# Altium footprint library Jameco_Connectors.PcbLib: 1 footprints
Each footprint in its own frame and in the unit in brackets; x right, y up, seen from the top. Pads: shape width x height; smd on the part's side, far side on the other; paste and mask are expansions set on the pad; w line width, h text height; cw(c..) or ccw(c..) is an arc to the next point about the centre after c.
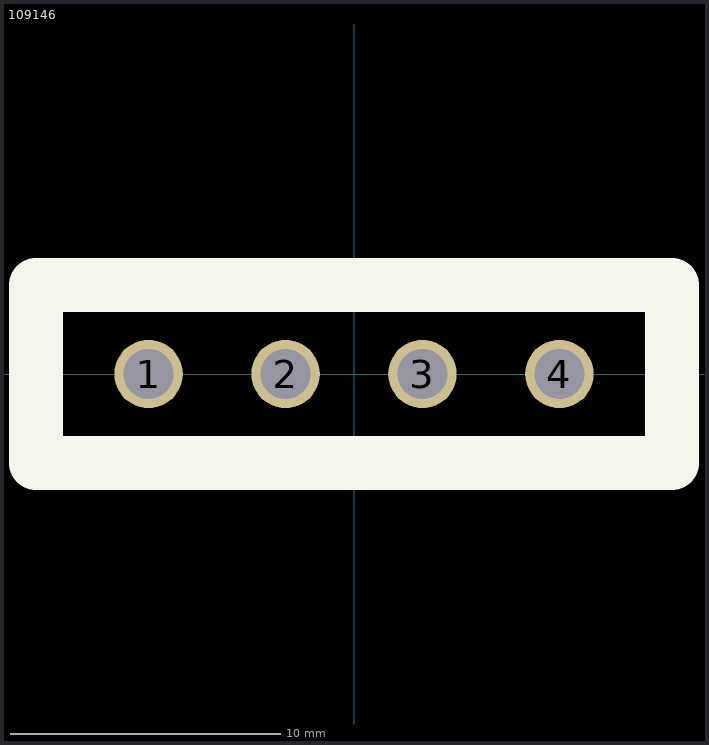
[diagram p0: the footprint, top view; thin cyan lines are the x and y axes]

## 109146 [mil] "Connector Power Male 4 Position 5.08mm Solder Right Angle Through Hole 4 Terminal 1 Port"
pads (4):
  round 100 hole 73: 1(-300,0) 2(-100,0) 3(100,0) 4(300,0)
Top Overlay:
  lines w79: -464.5,-130 -464.5,130 464.5,130 464.5,-130 -464.5,-130